# Altium schematic symbol library discrete.SchLib: 8 symbols
Pins are listed as number, name and electrical type; pins without a type are passive.

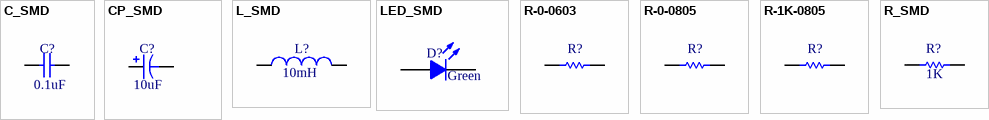
[diagram p0: symbols C_SMD to R_SMD]

## C_SMD
designator C?, comment 0.1uF
Value: 0.1uF
footprint C0603_L (Chip Capacitor, 2-Leads, Body 1,60x0,80mm, IPC High Density)
footprint C0603_M (Chip Capacitor, 2-Leads, Body 1,60x0,80mm, IPC Low Density)
footprint C0603_N (Chip Capacitor, 2-Leads, Body 1,60x0,80mm, IPC Medium Density)
footprint C0805_L (Chip Capacitor, 2-Leads, Body 2,00x1,25mm, IPC High Density)
footprint C0805_M (Chip Capacitor, 2-Leads, Body 2,00x1,25mm, IPC Low Density)
footprint C0805_N (Chip Capacitor, 2-Leads, Body 2,00x1,25mm, IPC Medium Density)
footprint C1206_L (Chip Capacitor, 2-Leads, Body 3,20x1,60mm, IPC High Density)
footprint C1206_M (Chip Capacitor, 2-Leads, Body 3,20x1,60mm, IPC Low Density)
footprint C1206_N (Chip Capacitor, 2-Leads, Body 3,20x1,60mm, IPC Medium Density)
pins: 1, 2

## CP_SMD
designator C?, comment 10uF
Value: 10uF
footprint C_TANT_A_3216_L (Molded Capacitor, 2-Leads, Body 3,20x1,60mm, IPC High Density)
footprint C_TANT_A_3216_M (Molded Capacitor, 2-Leads, Body 3,20x1,60mm, IPC Low Density)
footprint C_TANT_A_3216_N (Molded Capacitor, 2-Leads, Body 3,20x1,60mm, IPC Medium Density)
pins: 1, 2

## L_SMD
designator L?, comment 10mH
Value: 10mH
footprint R0603_N (Chip Resistor, 2-Leads, Body 1,60x0,85mm, IPC Medium Density)
footprint R0603_M (Chip Resistor, 2-Leads, Body 1,60x0,85mm, IPC Low Density)
footprint R0603_L (Chip Resistor, 2-Leads, Body 1,60x0,85mm, IPC High Density)
pins: 1 1 , 2

## LED_SMD
designator D?, comment Green
Color: Green
footprint R0603_L (Chip Resistor, 2-Leads, Body 1,60x0,85mm, IPC High Density)
footprint R0603_M (Chip Resistor, 2-Leads, Body 1,60x0,85mm, IPC Low Density)
footprint R0603_N (Chip Resistor, 2-Leads, Body 1,60x0,85mm, IPC Medium Density)
footprint R0805_L (Chip Resistor, 2-Leads, Body 2,00x1,25mm, IPC High Density)
footprint R0805_M (Chip Resistor, 2-Leads, Body 2,00x1,25mm, IPC Low Density)
footprint R0805_N (Chip Resistor, 2-Leads, Body 2,00x1,25mm, IPC Medium Density)
footprint R1206_L (Chip Resistor, 2-Leads, Body 3,13x1,55mm, IPC High Density)
footprint R1206_M (Chip Resistor, 2-Leads, Body 3,13x1,60mm, IPC Low Density)
footprint R1206_N (Chip Resistor, 2-Leads, Body 3,13x1,55mm, IPC Medium Density)
pins: 1 A, 2 K

## R-0-0603
designator R?
RES 0.0 OHM 1/10W JUMP 0603; Manufacturer: Samsung Electro-Mechanics America, Inc; Manufacturer Part Number: RC1608J000CS; Tolerance: Jumper; Power (Watts): 0.1W, 1/10W; Resistance (Ohms): 0.0; Supplier 1: Digi-Key; RoHS: RoHS Compliant; Category: Resistors; Stock 1: 10000; Pricing 1: 5000=0.00078, 10000=0.00068, 25000=0.00059, 50000=0.00055, 125000=0.00053 (USD); Packaging: Tape & Reel (TR); Composition: Thick Film; Features: -; Temperature Coefficient: -; Package / Case: 0603 (1608 Metric); Supplier Device Package: 0603 (1608 Metric); Size / Dimension: 0.063" L x 0.031" W (1.60mm x 0.80mm); Height: 0.022" (0.55mm); Number of Terminations: 2; ComponentLink1URL: http://www.samsungsem.com/servlet/FileDownload?filename=productcatalog/pdf/Chip_Resistor.pdf; ComponentLink1Description: http://www.samsungsem.com/servlet/FileDownload?filename=productcatalog/pdf/Chip_Resistor.pdf; Supplier Part Number 1: 1276-3510-2-ND
footprint R0603_L (Chip Resistor, 2-Leads, Body 1,60x0,85mm, IPC High Density)
footprint R0603_M (Chip Resistor, 2-Leads, Body 1,60x0,85mm, IPC Low Density)
footprint R0603_N (Chip Resistor, 2-Leads, Body 1,60x0,85mm, IPC Medium Density)
pins: 1, 2

## R-0-0805
designator R?
RES 0.0 OHM 1/8W JUMP 0805 SMD; Manufacturer: Panasonic Electronic Components; Manufacturer Part Number: ERJ-6GEY0R00V; Tolerance: Jumper; Power (Watts): 0.125W, 1/8W; Resistance (Ohms): 0.0; Supplier 1: Digi-Key; RoHS: RoHS Compliant; Category: Resistors; Stock 1: 2420000; Pricing 1: 5000=0.00323, 10000=0.00281, 25000=0.00247, 50000=0.00226, 125000=0.00222 (USD); Packaging: Tape & Reel (TR); Composition: Thick Film; Features: -; Temperature Coefficient: -; Package / Case: 0805 (2012 Metric); Supplier Device Package: 0805; Size / Dimension: 0.079" L x 0.049" W (2.00mm x 1.25mm); Height: 0.028" (0.70mm); Number of Terminations: 2; ComponentLink1URL: http://industrial.panasonic.com/www-cgi/jvcr13pz.cgi?E+PZ+3+AOA0001+ERJ6GEY0R00V+7+WW; ComponentLink1Description: http://industrial.panasonic.com/www-cgi/jvcr13pz.cgi?E+PZ+3+AOA0001+ERJ6GEY0R00V+7+WW; Supplier Part Number 1: P0.0ATR-ND
footprint R0805_L (Chip Resistor, 2-Leads, Body 2,00x1,25mm, IPC High Density)
footprint R0805_M (Chip Resistor, 2-Leads, Body 2,00x1,25mm, IPC Low Density)
footprint R0805_N (Chip Resistor, 2-Leads, Body 2,00x1,25mm, IPC Medium Density)
pins: 1, 2

## R-1K-0805
designator R?
RES 1K OHM 1/8W 5% 0805 SMD; Manufacturer: Panasonic Electronic Components; Manufacturer Part Number: ERJ-6GEYJ102V; Power (Watts): 0.125W, 1/8W; Temperature Coefficient: ±200ppm/°C; Supplier 1: Digi-Key; RoHS: RoHS Compliant; Category: Resistors; Stock 1: 1230000; Pricing 1: 5000=0.00323, 10000=0.00281, 25000=0.00247, 50000=0.00226, 125000=0.00222 (USD); Packaging: Tape & Reel (TR); Tolerance: ±5%; Composition: Thick Film; Features: -; Package / Case: 0805 (2012 Metric); Supplier Device Package: 0805; Size / Dimension: 0.079" L x 0.049" W (2.00mm x 1.25mm); Height: 0.028" (0.70mm); Number of Terminations: 2; ComponentLink1URL: http://industrial.panasonic.com/www-cgi/jvcr13pz.cgi?E+PZ+3+AOA0001+ERJ6GEYJ102V+7+WW; ComponentLink1Description: http://industrial.panasonic.com/www-cgi/jvcr13pz.cgi?E+PZ+3+AOA0001+ERJ6GEYJ102V+7+WW; Supplier Part Number 1: P1.0KATR-ND; Resistance (Ohms): 1k
footprint R0805_L (Chip Resistor, 2-Leads, Body 2,00x1,25mm, IPC High Density)
footprint R0805_M (Chip Resistor, 2-Leads, Body 2,00x1,25mm, IPC Low Density)
footprint R0805_N (Chip Resistor, 2-Leads, Body 2,00x1,25mm, IPC Medium Density)
pins: 1, 2

## R_SMD
designator R?, comment 1K
Value: 1K
footprint R0603_L (Chip Resistor, 2-Leads, Body 1,60x0,85mm, IPC High Density)
footprint R0603_M (Chip Resistor, 2-Leads, Body 1,60x0,85mm, IPC Low Density)
footprint R0603_N (Chip Resistor, 2-Leads, Body 1,60x0,85mm, IPC Medium Density)
footprint R0805_L (Chip Resistor, 2-Leads, Body 2,00x1,25mm, IPC High Density)
footprint R0805_M (Chip Resistor, 2-Leads, Body 2,00x1,25mm, IPC Low Density)
footprint R0805_N (Chip Resistor, 2-Leads, Body 2,00x1,25mm, IPC Medium Density)
footprint R1206_L (Chip Resistor, 2-Leads, Body 3,13x1,55mm, IPC High Density)
footprint R1206_M (Chip Resistor, 2-Leads, Body 3,13x1,60mm, IPC Low Density)
footprint R1206_N (Chip Resistor, 2-Leads, Body 3,13x1,55mm, IPC Medium Density)
pins: 1, 2